# Altium schematic symbol library ILI9341_schematic.SchLib: 1 symbol
Pins are listed as number, name and electrical type; pins without a type are passive.

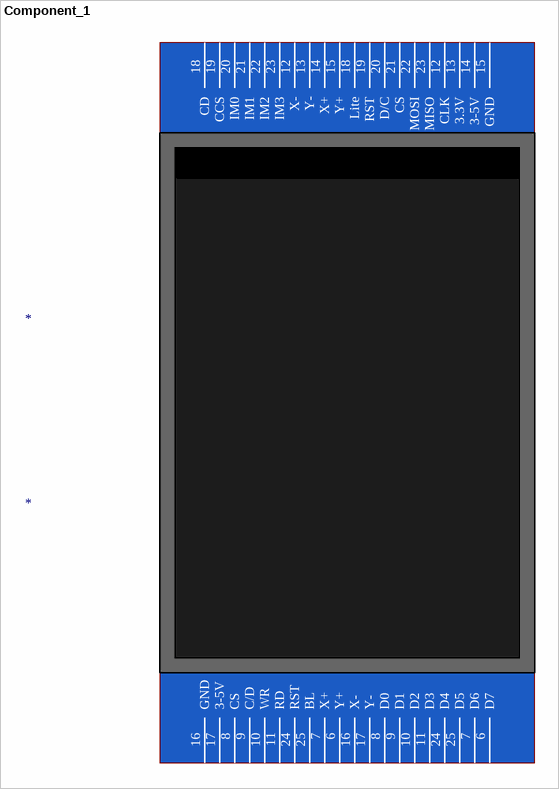
[diagram p0: symbol Component_1]

## Component_1
designator *
pins: 6 D7, 6 Y+, 7 D6, 7 X+, 8 D0, 8 CS, 9 D1, 9 C/D, 10 D2, 10 WR, 11 D3, 11 RD, 12 X-, 12 CLK, 13 Y-, 13 3.3V, 14 X+, 14 3-5V, 15 Y+, 15 GND, 16 X-, 16 GND, 17 Y-, 17 3-5V, 18 CD, 18 Lite, 19 CCS, 19 RST, 20 IM0, 20 D/C, 21 IM1, 21 CS, 22 IM2, 22 MOSI, 23 IM3, 23 MISO, 24 D4, 24 RST, 25 D5, 25 BL